# Altium footprint library dip-14_K514ID2.PcbLib: 1 footprints
Each footprint in its own frame and in the unit in brackets; x right, y up, seen from the top. Pads: shape width x height; smd on the part's side, far side on the other; paste and mask are expansions set on the pad; w line width, h text height; cw(c..) or ccw(c..) is an arc to the next point about the centre after c.
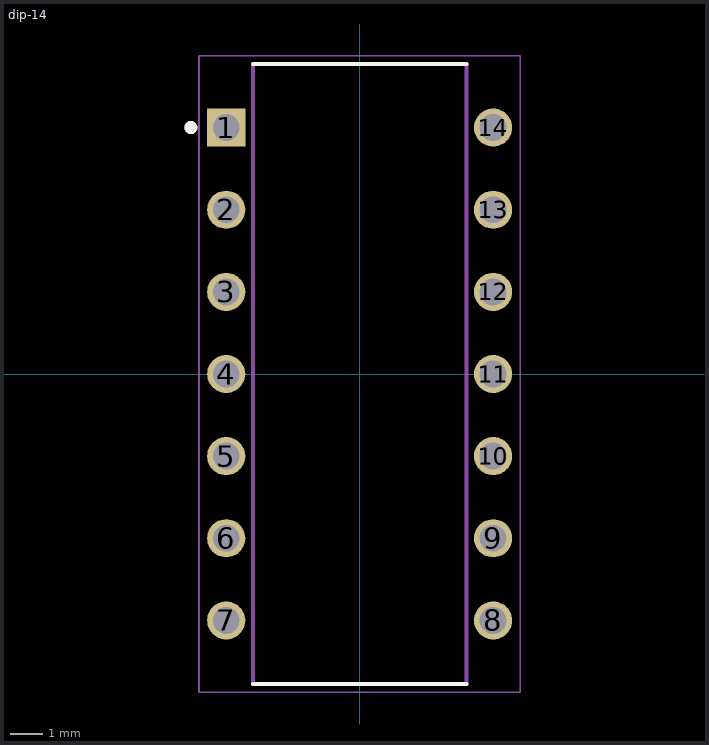
[diagram p0: the footprint, top view; thin cyan lines are the x and y axes]

## dip-14 [mm]
pads (14):
  rect 1.18x1.18 hole 0.83: 1(-4.127,7.62)
  round 1.18 hole 0.83: 2(-4.127,5.08) 3(-4.127,2.54) 4(-4.127,0) 5(-4.127,-2.54) 6(-4.127,-5.08) 7(-4.127,-7.62) 8(4.127,-7.62) 9(4.127,-5.08) 10(4.127,-2.54) 11(4.127,0) 12(4.127,2.54) 13(4.127,5.08) 14(4.127,7.62)
Top Overlay:
  circle w0.2: c-5.218,7.62 r0.1
  lines w0.127: -3.302,-9.588 3.302,-9.588 ; -3.302,9.588 3.302,9.588
Mechanical 13:
  circle w0.2: c-5.218,7.62 r0.1
  lines w0.127: -3.302,-9.588 -3.302,9.588 3.302,9.588 3.302,-9.588 -3.302,-9.588
Mechanical 15:
  lines w0.05: -4.968,-9.838 -4.968,9.838 4.968,9.838 4.968,-9.838 -4.968,-9.838
3D body "step_temp.STEP": height 5.08, standoff -3.17, extent -5.461,-9.652 5.461,9.652